# EAGLE library part ATWINC1500_MR210PA (library mbed-HDK)
ATWINC1500_MR210PA wifi module
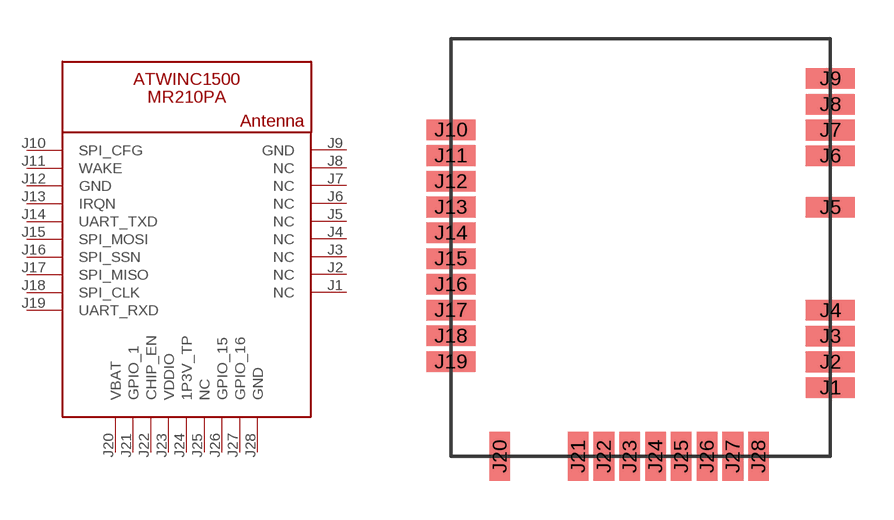
[diagram p24: symbol with the pads of ATWINC1500_MR210PA; footprint ATWINC1500_MR210PA]

Designator prefix MOD

## ATWINC1500_MR210PA  [ATWINC1500_MR210PA]
J1  NC
J2  NC
J3  NC
J4  NC
J5  NC
J6  NC
J7  NC
J8  NC
J9  GND
J10  SPI_CFG
J11  WAKE
J12  GND
J13  IRQN
J14  UART_TXD
J15  SPI_MOSI
J16  SPI_SSN
J17  SPI_MISO
J18  SPI_CLK
J19  UART_RXD
J20  VBAT
J21  GPIO_1
J22  CHIP_EN
J23  VDDIO
J24  1P3V_TP
J25  NC
J26  GPIO_15
J27  GPIO_16
J28  GND

## Footprint ATWINC1500_MR210PA (pad centres in mm)
smd 1.9 x 0.8: J1 14.73,2.67; J2 14.73,3.67; J3 14.73,4.67; J4 14.73,5.67; J5 14.73,9.67; J6 14.73,11.67; J7 14.73,12.67; J8 14.73,13.67; J9 14.73,14.67; J10 0,12.68; J11 0,11.68; J12 0,10.68; J13 0,9.68; J14 0,8.68; J15 0,7.68; J16 0,6.68; J17 0,5.68; J18 0,4.68; J19 0,3.68
smd 0.8 x 1.9: J20 1.9,0; J21 4.94,0; J22 5.94,0; J23 6.94,0; J24 7.94,0; J25 8.94,0; J26 9.94,0; J27 10.94,0; J28 11.94,0